# EAGLE library part 10118194-0011LF (library 10118194-0001LF_microUSB)
Power to the Board MICRO USD B-TYPE Source: Datasheet <https://cdn.amphenol-icc.com/media/wysiwyg/files/drawing/10118194.pdf>
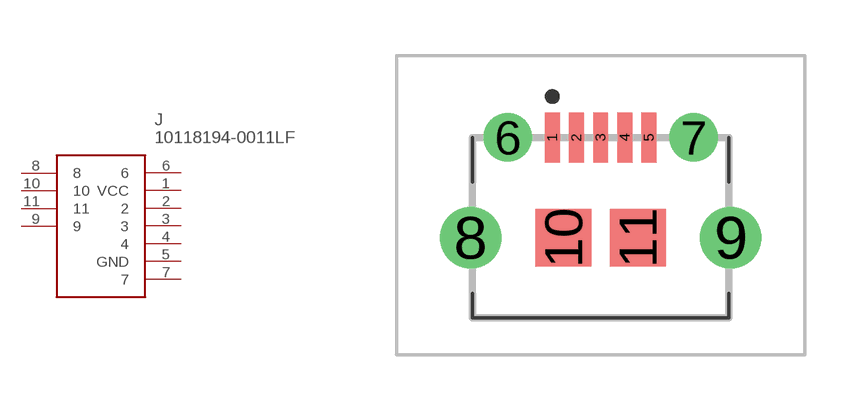
[diagram p0: symbol with the pads of 101181940011LF; footprint 101181940011LF]

Designator prefix J

## 10118194-0011LF (DESCRIPTION: Power to the Board MICRO USD B-TYPE; HEIGHT: 2mm; MANUFACTURER_NAME: Amphenol; MANUFACTURER_PART_NUMBER: 10118194-0011LF; MOUSER_PART_NUMBER: 649-10118194-0011LF; MOUSER_PRICE-STOCK: https://www.mouser.co.uk/ProductDetail/Amphenol-FCI/10118194-0011LF?qs=9lcNTSmDlCqQOdqcAswPOg%3D%3D)  [101181940011LF]
1  VCC
2  2
3  3
4  4
5  GND
6  6
7  7
8  8
9  9
10  10
11  11

## Footprint 101181940011LF (pad centres in mm)
10118194-0011LF
smd 0.4 x 1.35: 1 -1.3,1.825; 2 -0.65,1.825; 3 0,1.825; 4 0.65,1.825; 5 1.3,1.825
drill 0.8: 6 -2.5,1.825; 7 2.5,1.825
drill 1.1: 8 -3.5,-0.875; 9 3.5,-0.875
smd 1.5 x 1.55: 10 -1,-0.875; 11 1,-0.875